# Altium schematic symbol library Temp.SchLib: 4 symbols
Pins are listed as number, name and electrical type; pins without a type are passive.

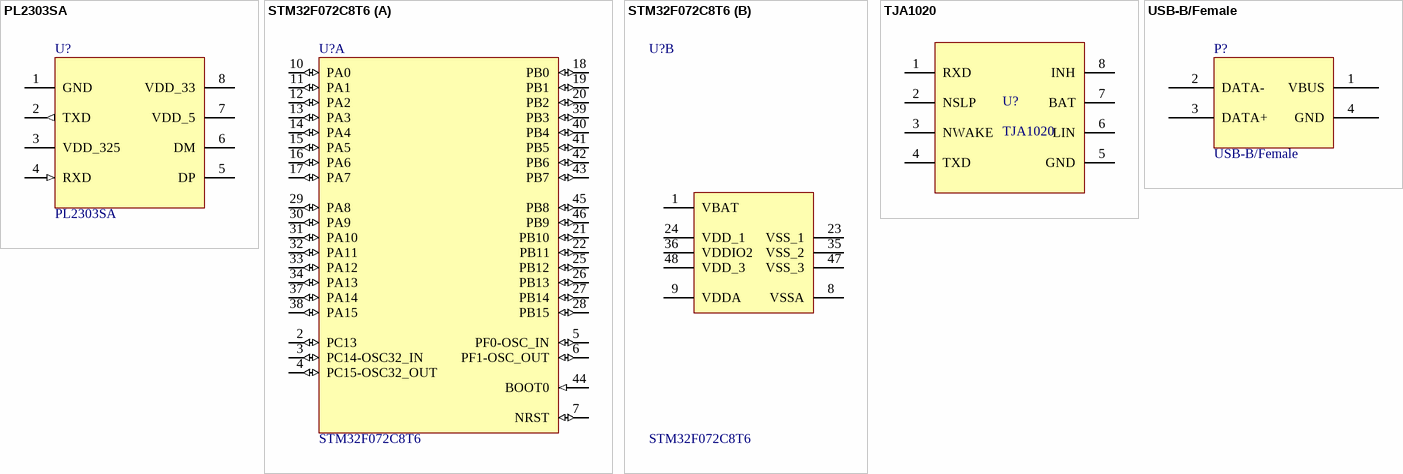
[diagram p0: symbols PL2303SA to USB-B/Female]

## PL2303SA
designator U?
footprint LC-SOP-8_150mil
pins: 1 GND (power), 2 TXD (out), 3 VDD_325 (power), 4 RXD (in), 5 DP, 6 DM, 7 VDD_5 (power), 8 VDD_33 (power)

## STM32F072C8T6
designator U?, comment Comment_1: STM32F072C8T6  (hidden comment: This drawing is based on STM32F103C8T6)
ARM; Package: LQFP-48_7x7x05P; Supplier: LC
footprint LQFP-48_7x7x05P
part A pins: 2 PC13 (io), 3 PC14-OSC32_IN (io), 4 PC15-OSC32_OUT (io), 5 PF0-OSC_IN (io), 6 PF1-OSC_OUT (io), 7 NRST (io), 10 PA0 (io), 11 PA1 (io), 12 PA2 (io), 13 PA3 (io), 14 PA4 (io), 15 PA5 (io), 16 PA6 (io), 17 PA7 (io), 18 PB0 (io), 19 PB1 (io), 20 PB2 (io), 21 PB10 (io), 22 PB11 (io), 25 PB12 (io), 26 PB13 (io), 27 PB14 (io), 28 PB15 (io), 29 PA8 (io), 30 PA9 (io), 31 PA10 (io), 32 PA11 (io), 33 PA12 (io), 34 PA13 (io), 37 PA14 (io), 38 PA15 (io), 39 PB3 (io), 40 PB4 (io), 41 PB5 (io), 42 PB6 (io), 43 PB7 (io), 44 BOOT0 (in), 45 PB8 (io), 46 PB9 (io)
part B pins: 1 VBAT (power), 8 VSSA (power), 9 VDDA (power), 23 VSS_1 (power), 24 VDD_1 (power), 35 VSS_2 (power), 36 VDDIO2 (power), 47 VSS_3 (power), 48 VDD_3 (power)

## TJA1020
designator U?
footprint SO8 (Footprint not found)
pins: 1 RXD, 2 NSLP, 3 NWAKE, 4 TXD, 5 GND, 6 LIN, 7 BAT, 8 INH

## USB-B/Female
designator P?
footprint USB-B/Female
pins: 1 VBUS, 2 DATA-, 3 DATA+, 4 GND